# Altium schematic symbol library Lab10.SchLib: 4 symbols
Pins are listed as number, name and electrical type; pins without a type are passive.

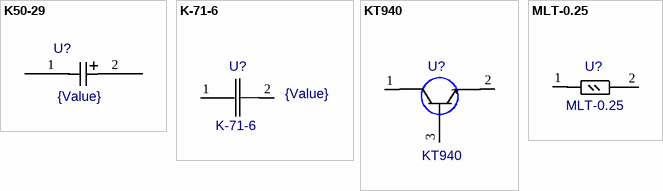
[diagram p0: symbols K50-29 to MLT-0.25]

## K50-29
designator U?  value {Value}  (hidden comment: *)
footprint K50-29
pins: 1, 2

## K-71-6
designator U?  value {Value}
footprint K71-6
pins: 1, 2

## KT940
designator U?
Value: *
footprint KT940
pins: 1, 2, 3

## MLT-0.25
designator U?
Value: *
footprint MLT-25
pins: 1, 2